# Altium schematic symbol library Antenna.SchLib: 1 symbol
Pins are listed as number, name and electrical type; pins without a type are passive.

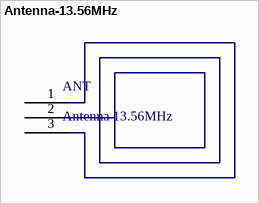
[diagram p0: symbol Antenna-13.56MHz]

## Antenna-13.56MHz
designator ANT, comment Antenna 13.56MHz
footprint Antenna-13.56MHz
pins: 1, 2, 3